# EAGLE library part XC6806A42011-G (library XC6806A42011-G)
Battery Charger Li-Ion/Li-Pol Single Cell 385mA 4.2V 10-Pin LGA-B01 T/R Source: Datasheet <https://www.torexsemi.com/file/xc6806/XC6806.pdf>
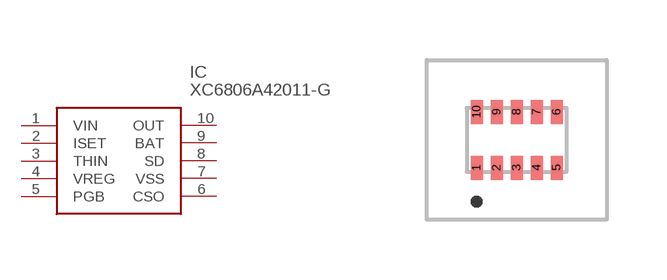
[diagram p0: symbol with the pads of XC6806A42011G; footprint XC6806A42011G]

Designator prefix IC

## XC6806A42011-G (Description: Battery Charger Li-Ion/Li-Pol Single Cell 385mA 4.2V 10-Pin LGA-B01 T/R; Height: 0.4mm; Manufacturer_Name: Torex; Manufacturer_Part_Number: XC6806A42011-G)  [XC6806A42011G]
1  VIN
2  ISET
3  THIN
4  VREG
5  PGB
6  CSO
7  VSS
8  SD
9  BAT
10  OUT

## Footprint XC6806A42011G (pad centres in mm)
XC6806A42011-G-2
smd 0.3 x 0.6: 1 -1,-0.7; 2 -0.5,-0.7; 3 0,-0.7; 4 0.5,-0.7; 5 1,-0.7; 6 1,0.7; 7 0.5,0.7; 8 0,0.7; 9 -0.5,0.7; 10 -1,0.7